# Altium footprint library SamacSys.PcbLib: 20 footprints (part 1 of 2)
Each footprint in its own frame and in the unit in brackets; x right, y up, seen from the top. Pads: shape width x height; smd on the part's side, far side on the other; paste and mask are expansions set on the pad; w line width, h text height; cw(c..) or ccw(c..) is an arc to the next point about the centre after c.
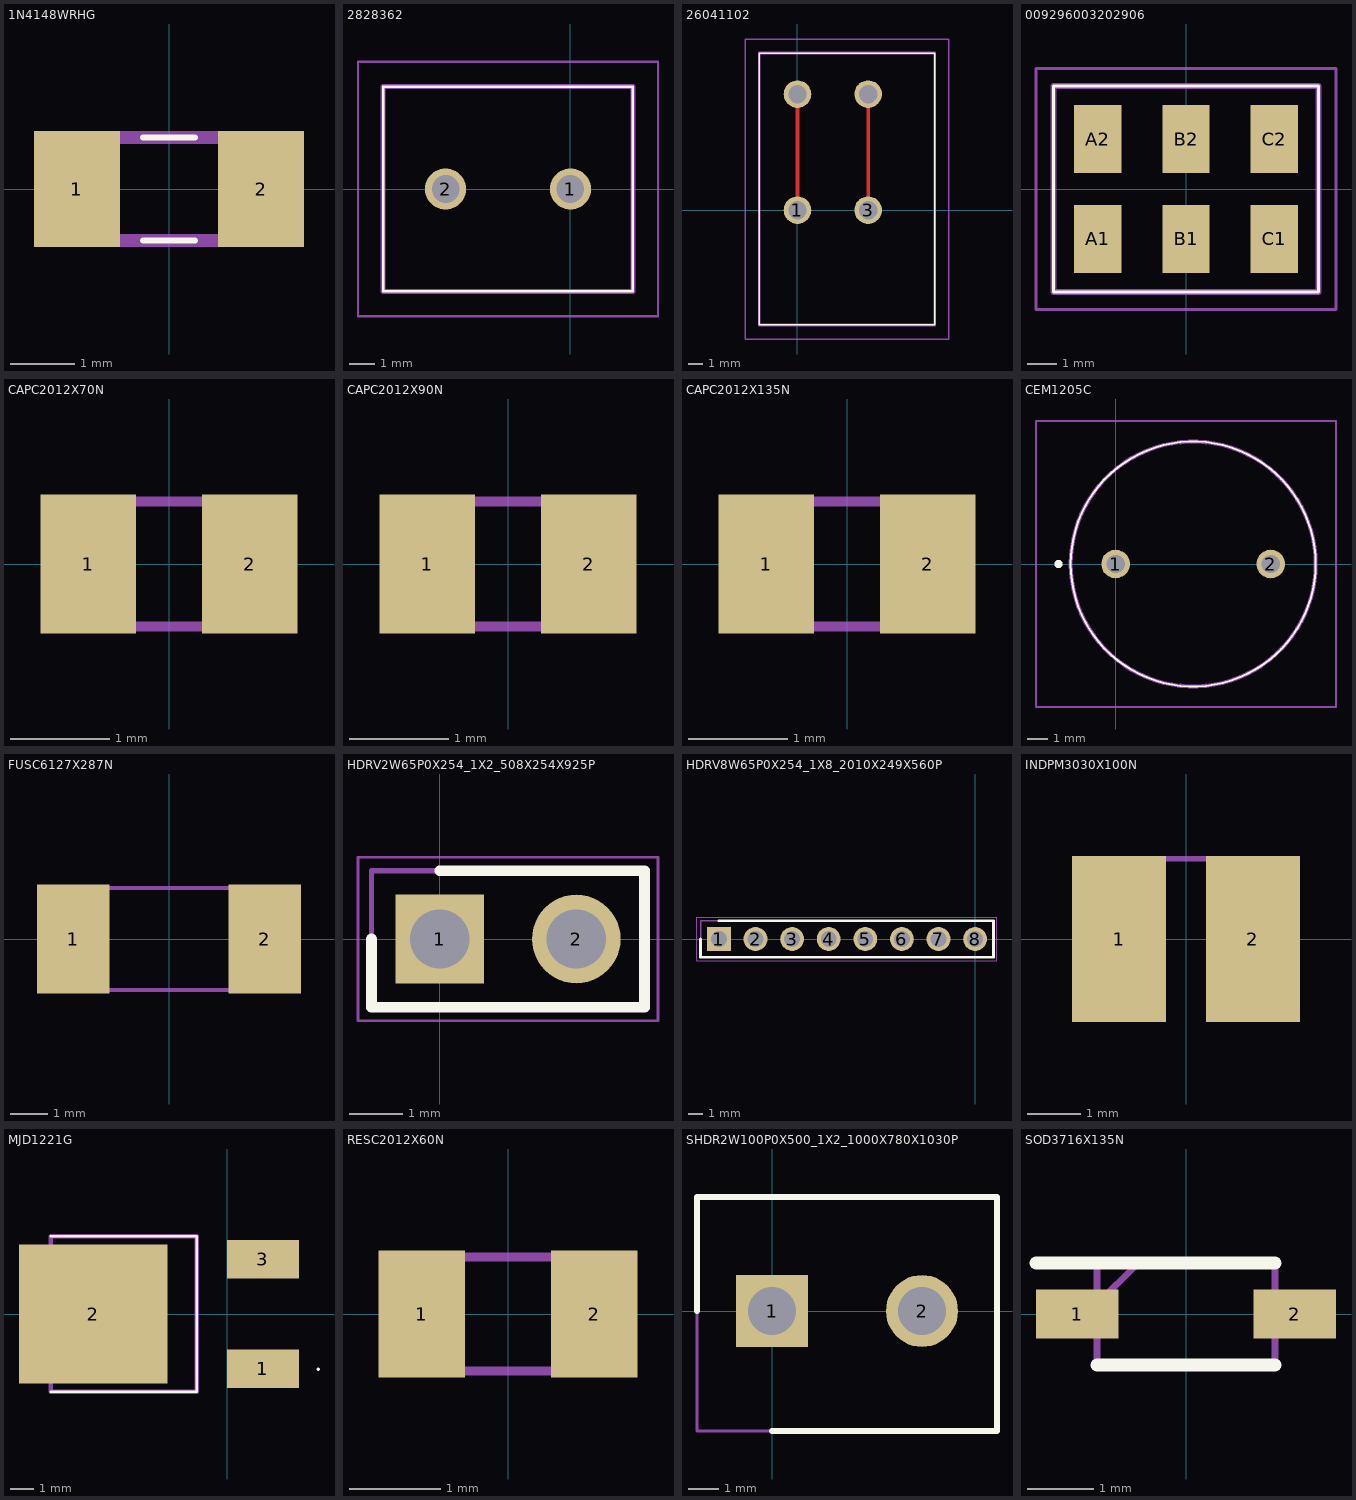
[diagram p0: the footprints below, top view; thin cyan lines are the x and y axes]

## 1N4148WRHG [mm]
pads (2):
  rect 1.34x1.8 smd: 1(-1.43,0) 2(1.43,0)
Top Overlay:
  lines w0.1: -0.4,-0.8 0.4,-0.8 ; -0.4,0.8 0.4,0.8
Mechanical 13:
  lines w0.2: -1.3,-0.8 -1.3,0.8 1.3,0.8 1.3,-0.8 -1.3,-0.8

## 2828362 [mm]
pads (2):
  round 1.65 hole 1.1: 1(0,0) 2(-5,0)
Top Overlay:
  lines w0.1: -7.5,-4.1 -7.5,4.1 2.5,4.1 2.5,-4.1 -7.5,-4.1
Mechanical 13:
  lines w0.2: -7.5,-4.1 2.5,-4.1 2.5,4.1 -7.5,4.1 -7.5,-4.1
Mechanical 15:
  lines w0.1: -8.5,-5.1 -8.5,5.1 3.5,5.1 3.5,-5.1 -8.5,-5.1
3D body "282836-2.stp": height 10.02, standoff -3.48, extent -7.54,-4.009 3.06,4.191

## 26041102 [mm]
pads (4):
  round 1.95 hole 1.3: 1(0,0) 3(5,0) ""(0,8.2) ""(5,8.2)
Top Layer:
  lines w0.254: 0,0 0,8.2 ; 5,0 5,8.2
Top Overlay:
  lines w0.1: -2.7,-8.1 -2.7,11.1 9.7,11.1 9.7,-8.1 -2.7,-8.1
Mechanical 13:
  lines w0.2: -2.7,-8.1 -2.7,11.1 9.7,11.1 9.7,-8.1 -2.7,-8.1
Mechanical 15:
  lines w0.1: -3.7,-9.1 -3.7,12.1 10.7,12.1 10.7,-9.1 -3.7,-9.1
3D body "2604-1102.stp": height 16.7, standoff -4, extent -3.533,-8.1 8.866,11.1

## 009296003202906 [mm]
pads (6):
  rect 1.6x2.3 smd: A1(-3,-1.7) A2(-3,1.7) B1(0,-1.7) B2(0,1.7) C1(3,-1.7) C2(3,1.7)
Top Overlay:
  lines w0.1: -4.5,-3.5 -4.5,3.5 4.5,3.5 4.5,-3.5 -4.5,-3.5
Mechanical 13:
  lines w0.2: -4.5,-3.5 -4.5,3.5 4.5,3.5 4.5,-3.5 -4.5,-3.5
Mechanical 15:
  lines w0.1: -5.1,-4.1 -5.1,4.1 5.1,4.1 5.1,-4.1 -5.1,-4.1
3D body "009296003202906.stp": height 2.8, standoff 0, extent -4.5,-3.5 4.5,3.5

## CAPC2012X70N [mm]
pads (2):
  rect 0.96x1.39 smd: 1(-0.81,0) 2(0.81,0)
Mechanical 13:
  lines w0.1: -1,-0.625 -1,0.625 1,0.625 1,-0.625 -1,-0.625
3D body "885012007056.stp": height 0.7, standoff 0, extent -1,-0.625 1,0.625

## CAPC2012X90N [mm]
pads (2):
  rect 0.96x1.39 smd: 1(-0.81,0) 2(0.81,0)
Mechanical 13:
  lines w0.1: -1,-0.625 -1,0.625 1,0.625 1,-0.625 -1,-0.625
3D body "885012207087.stp": height 0.9, standoff 0, extent -1,-0.625 1,0.625

## CAPC2012X135N [mm]
pads (2):
  rect 0.96x1.39 smd: 1(-0.81,0) 2(0.81,0)
Mechanical 13:
  lines w0.1: -1,-0.625 -1,0.625 1,0.625 1,-0.625 -1,-0.625
3D body "885012107014.stp": height 1.35, standoff 0, extent -1,-0.625 1,0.625

## CEM1205C [mm]
pads (2):
  round 1.4 hole 0.9: 1(0,0) 2(7.6,0)
Top Overlay:
  lines w0.1: -2.2,0 ccw(c3.8,0) 9.8,0 ccw(c3.8,0) -2.2,0
  lines w0.2: -2.8,-0.1 cw(c-2.8,0) -2.8,0.1 cw(c-2.8,0) -2.8,-0.1
Mechanical 13:
  lines w0.2: -2.2,0 ccw(c3.8,0) 9.8,0 ccw(c3.8,0) -2.2,0
Mechanical 15:
  lines w0.1: -3.9,-7 -3.9,7 10.8,7 10.8,-7 -3.9,-7
3D body "CEM-1205C.stp": height 10.1, standoff -5, extent -2.2,-6 9.8,6

## FUSC6127X287N [mm]
pads (2):
  rect 1.92x2.89 smd: 1(-2.55,0) 2(2.55,0)
Mechanical 13:
  lines w0.1: -3.05,-1.36 3.05,-1.36 3.05,1.36 -3.05,1.36 -3.05,-1.36
3D body "TR2_6125FF500-R.stp": height 2.87, standoff 0, extent -3.05,-1.36 3.05,1.36

## HDRV2W65P0X254_1X2_508X254X925P [mm]
pads (2):
  rect 1.65x1.65 hole 1.1: 1(0,0)
  round 1.65 hole 1.1: 2(2.54,0)
Top Overlay:
  lines w0.2: -1.27,0 -1.27,-1.27 3.81,-1.27 3.81,1.27 0,1.27
Mechanical 13:
  lines w0.1: -1.27,-1.27 3.81,-1.27 3.81,1.27 -1.27,1.27 -1.27,-1.27
Mechanical 15:
  lines w0.05: -1.52,-1.52 4.06,-1.52 4.06,1.52 -1.52,1.52 -1.52,-1.52
3D body "0901200762.stp": height 9.25, standoff -2.9, extent -1.27,-1.27 3.81,1.27

## HDRV8W65P0X254_1X8_2010X249X560P [mm]
pads (8):
  rect 1.65x1.65 hole 1.1: 1(-17.78,0)
  round 1.65 hole 1.1: 2(-15.24,0) 3(-12.7,0) 4(-10.16,0) 5(-7.62,0) 6(-5.08,0) 7(-2.54,0) 8(0,0)
Top Overlay:
  lines w0.2: -19.05,0 -19.05,-1.27 1.27,-1.27 1.27,1.27 -17.78,1.27
Mechanical 13:
  lines w0.1: -19.05,-1.27 -19.05,1.27 1.27,1.27 1.27,-1.27 -19.05,-1.27
Mechanical 15:
  lines w0.05: -19.3,-1.52 -19.3,1.52 1.52,1.52 1.52,-1.52 -19.3,-1.52
3D body "0901200768.stp": height 9.33, standoff -2.79, extent -18.94,-1.25 1.38,1.25

## INDPM3030X100N [mm]
pads (2):
  rect 1.75x3.1 smd: 1(-1.25,0) 2(1.25,0)
Mechanical 13:
  lines w0.1: -1.5,-1.5 -1.5,1.5 1.5,1.5 1.5,-1.5
3D body "VLS3010CX-4R7M-1.stp": height 1, standoff 0, extent -1.5,-1.5 1.5,1.5

## MJD1221G [mm]
pads (3):
  rect 3x1.6 smd: 1(1.5,-2.285) 3(1.5,2.285)
  rect 6.2x5.8 smd: 2(-5.6,0)
Top Overlay:
  lines w0.068: 3.778,-2.308 cw(c3.812,-2.308) 3.846,-2.308 cw(c3.812,-2.308) 3.778,-2.308
  lines w0.1: -7.37,-3.25 -1.27,-3.25 -1.27,3.25 -7.37,3.25
Mechanical 13:
  lines w0.2: -7.37,-3.25 -7.37,3.25 -1.27,3.25 -1.27,-3.25 -7.37,-3.25
3D body "TO-252AA-IRF.stp": height 2.39, standoff 0, extent -8.509,-3.356 1.905,3.356

## RESC2012X60N [mm]
pads (2):
  rect 0.95x1.4 smd: 1(-0.95,0) 2(0.95,0)
Mechanical 13:
  lines w0.1: -1,-0.625 1,-0.625 1,0.625 -1,0.625 -1,-0.625
3D body "RC0805FR-07100KL.stp": height 0.6, standoff 0, extent -1,-0.625 1,0.625

## SHDR2W100P0X500_1X2_1000X780X1030P [mm]
pads (2):
  rect 2.4x2.4 hole 1.6: 1(0,0)
  round 2.4 hole 1.6: 2(5,0)
Top Overlay:
  lines w0.2: -2.5,0 -2.5,3.8 7.5,3.8 7.5,-4 0,-4
Mechanical 13:
  lines w0.1: -2.5,-4 7.5,-4 7.5,3.8 -2.5,3.8 -2.5,-4
3D body "TB003-500-P02BE.stp": height 10.3, standoff -4.3, extent -2.5,-4 7.5,3.8

## SOD3716X135N [mm]
pads (2):
  rect 1.25x0.75 smd: 1(-1.65,0) 2(1.65,0)
Top Overlay:
  lines w0.2: -2.275,0.775 1.35,0.775 ; -1.35,-0.775 1.35,-0.775
Mechanical 13:
  lines w0.1: -1.35,0.15 -0.725,0.775 ; -1.35,-0.775 -1.35,0.775 1.35,0.775 1.35,-0.775 -1.35,-0.775
3D body "BAT46W-E3-08.stp": height 1.35, standoff 0, extent -1.85,-0.775 1.85,0.775